# Altium footprint library Клеммники.PcbLib: 37 footprints (part 1 of 3)
Each footprint in its own frame and in the unit in brackets; x right, y up, seen from the top. Pads: shape width x height; smd on the part's side, far side on the other; paste and mask are expansions set on the pad; w line width, h text height; cw(c..) or ccw(c..) is an arc to the next point about the centre after c.
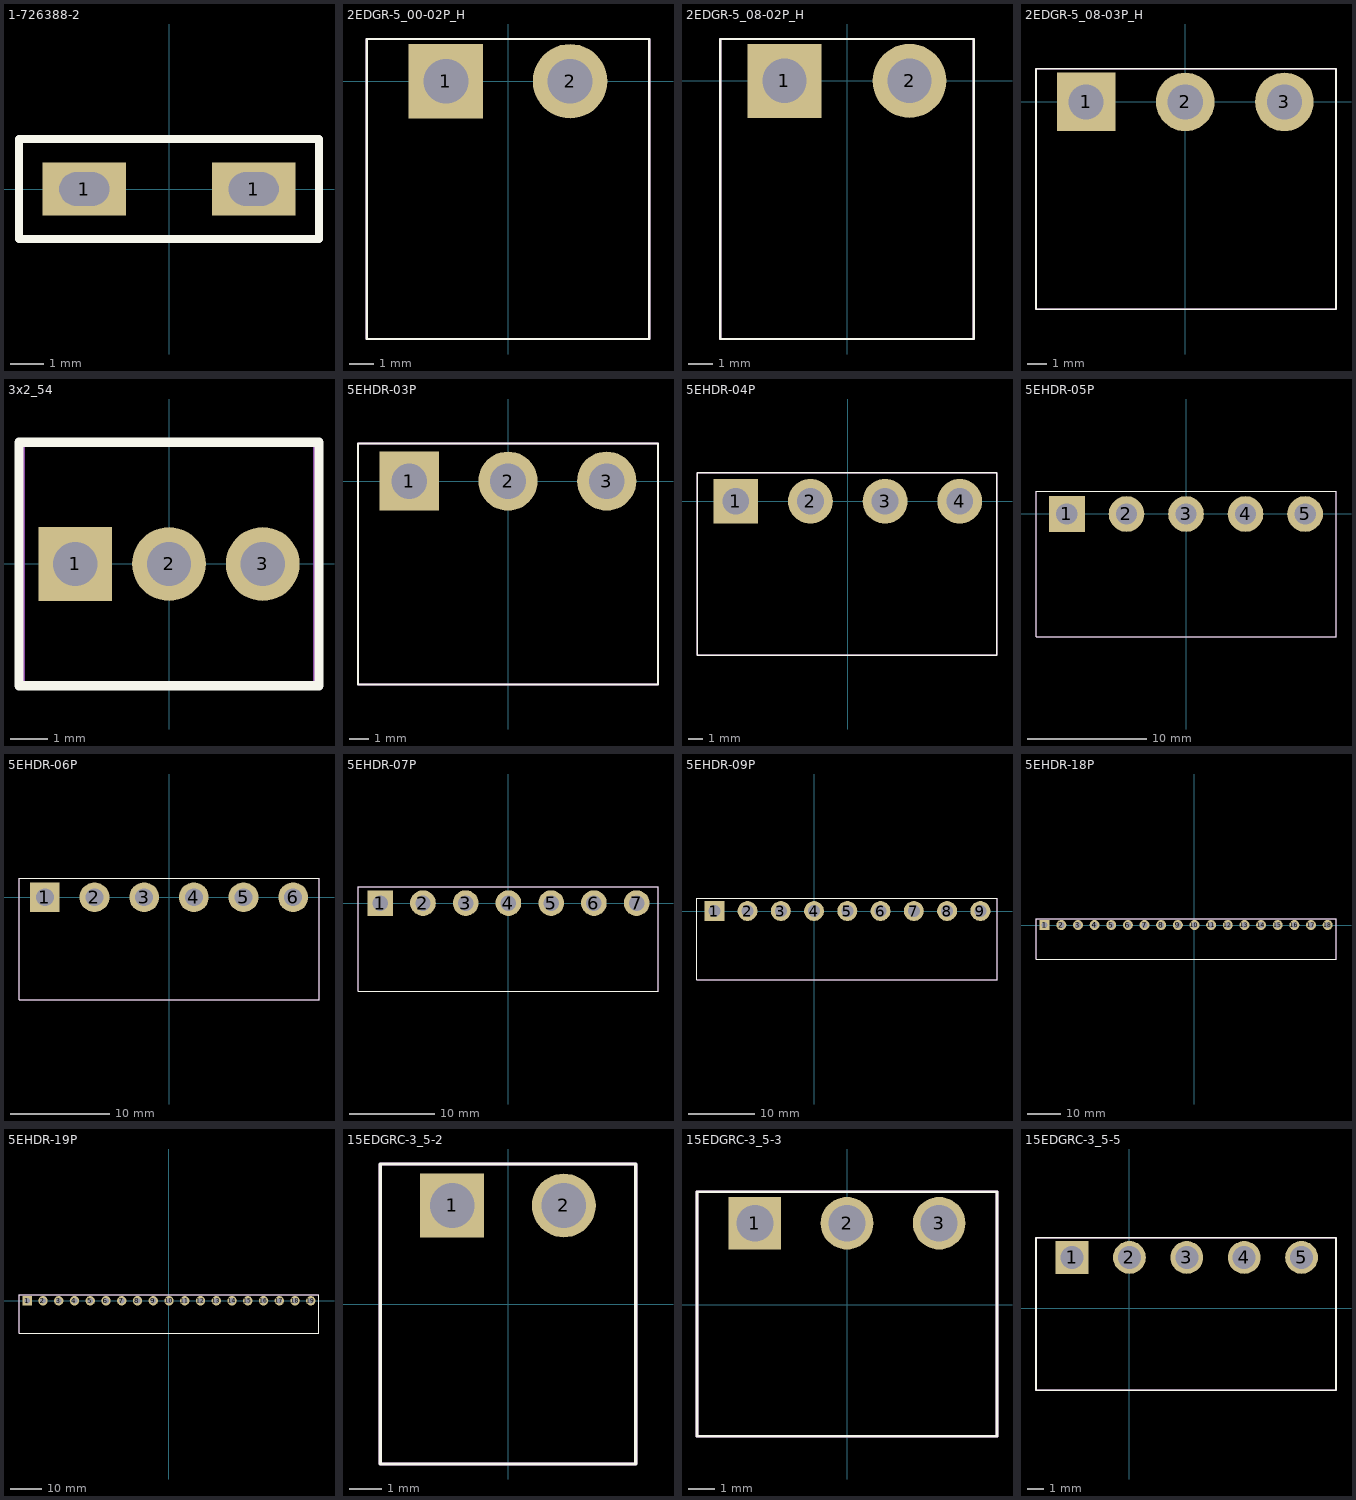
[diagram p0: the footprints below, top view; thin cyan lines are the x and y axes]

## 1-726388-2 [mm]
pads (2):
  rect 2.5x1.6 hole 1 slot 1.5 at 0 deg: 1(-2.54,0) 1(2.54,0)
Top Overlay:
  lines w0.254: -4.5,-1.5 -4.5,1.5 4.5,1.5 4.5,-1.5 -4.5,-1.5
3D body "Вилка-клемма 1-726388-2.stp": height 10, standoff -4, extent -3.165,-0.375 3.215,0.425

## 2EDGR-5_00-02P_H [mm]
pads (2):
  rect 3x3 hole 1.8: 1(-2.5,0)
  round 3 hole 1.8: 2(2.5,0)
Top Overlay:
  lines w0.1: -5.69,-10.389 5.69,-10.389 5.69,1.7 -5.69,1.7 -5.69,-10.389
TopAssy:
  lines w0.1: -5.69,-10.389 -5.69,1.7 5.69,1.7 5.69,-10.389 -5.69,-10.389
  text ".Designator" at -3.9,-5.2 h1.52
3D body "2EDGRC-5_0-02P_H.step": height 8.3, standoff -3.9, extent -5.7,-10.398 5.7,1.702

## 2EDGR-5_08-02P_H [mm]
pads (2):
  rect 3x3 hole 1.8: 1(-2.54,0)
  round 3 hole 1.8: 2(2.54,0)
Top Overlay:
  lines w0.1: -5.156,-10.49 -5.156,1.7 5.156,1.7 5.156,-10.49 -5.156,-10.49
TopAssy:
  lines w0.1: -5.156,-10.49 5.156,-10.49 5.156,1.7 -5.156,1.7 -5.156,-10.49
  text ".Designator" at -3.9,-5.2 h1.52
3D body "2EDGR-5_08-02P_H.step": height 8.3, standoff -3.9, extent -5.08,-10.5 5.08,1.6

## 2EDGR-5_08-03P_H [mm]
pads (3):
  rect 3x3 hole 1.8: 1(-5.08,0)
  round 3 hole 1.8: 2(0,0) 3(5.08,0)
Top Overlay:
  lines w0.1: -7.645,-10.617 7.722,-10.617 7.722,1.7 -7.645,1.7 -7.645,-10.617
TopAssy:
  lines w0.1: -7.645,-10.617 -7.645,1.7 7.722,1.7 7.722,-10.617 -7.645,-10.617
  text ".Designator" at -3.9,-5.2 h1.52
3D body "2EDGR-5_08-03P_H.step": height 8.3, standoff -3.9, extent -7.569,-10.525 7.671,1.575

## 3x2_54 [mm]
pads (3):
  rect 2x2 hole 1.2: 1(-2.54,0)
  round 2 hole 1.2: 2(0,0) 3(2.54,0)
Top Overlay:
  lines w0.254: -4.064,-3.302 4.064,-3.302 4.064,3.3 -4.064,3.3 -4.064,-3.302
TopAssy:
  lines w0.2: -4,-3.3 4,-3.3 4,3.3 -4,3.3 -4,-3.3
  text ".Designator" at -3.6,-2 h1.52
3D body "Клеммник3х2_54.stp": height 10, standoff -3.4, extent -4.04,-3.25 4.04,3.25

## 5EHDR-03P [mm]
pads (3):
  rect 3x3 hole 1.8: 1(-5,0)
  round 3 hole 1.8: 2(0,0) 3(5,0)
Top Overlay:
  lines w0.1: -7.6,-10.3 -7.6,1.9 7.6,1.9 7.6,-10.3 -7.6,-10.3
TopAssy:
  lines w0.1: -7.6,-10.3 7.6,-10.3 7.6,1.9 -7.6,1.9 -7.6,-10.3
  text ".Designator" at 1.7,-3 h1.52
3D body "5EHDR-03P.stp": height 8.47, standoff -4, extent -7.5,-10.2 7.5,1.8

## 5EHDR-04P [mm]
pads (4):
  rect 3x3 hole 1.8: 1(-7.5,0)
  round 3 hole 1.8: 2(-2.5,0) 3(2.5,0) 4(7.5,0)
Top Overlay:
  lines w0.1: -10.1,-10.3 10,-10.3 10,1.9 -10.1,1.9 -10.1,-10.3
TopAssy:
  lines w0.1: -10.1,-10.3 -10.1,1.9 10,1.9 10,-10.3 -10.1,-10.3
  text ".Designator" at 4.2,-3 h1.52

## 5EHDR-05P [mm]
pads (5):
  rect 3x3 hole 1.8: 1(-10,0)
  round 3 hole 1.8: 2(-5,0) 3(0,0) 4(5,0) 5(10,0)
Top Overlay:
  lines w0.1: -12.6,-10.3 -12.6,1.9 12.6,1.9 12.6,-10.3 -12.6,-10.3
TopAssy:
  lines w0.1: -12.6,-10.3 12.6,-10.3 12.6,1.9 -12.6,1.9 -12.6,-10.3
  text ".Designator" at 1.7,-3 h1.52
3D body "5EHDR-05P.stp": height 8.47, standoff -4, extent -12.5,-10.2 12.5,1.8

## 5EHDR-06P [mm]
pads (6):
  rect 3x3 hole 1.8: 1(-12.5,0)
  round 3 hole 1.8: 2(-7.5,0) 3(-2.5,0) 4(2.5,0) 5(7.5,0) 6(12.5,0)
Top Overlay:
  lines w0.1: -15.1,-10.3 15.1,-10.3 15.1,1.9 -15.1,1.9 -15.1,-10.3
TopAssy:
  lines w0.1: -15.1,-10.3 -15.1,1.9 15.1,1.9 15.1,-10.3 -15.1,-10.3
  text ".Designator" at -0.8,-3 h1.52
3D body "5EHDR-06P.stp": height 8.47, standoff -4, extent -15,-10.2 15,1.8

## 5EHDR-07P [mm]
pads (7):
  rect 3x3 hole 1.8: 1(-15,0)
  round 3 hole 1.8: 2(-10,0) 3(-5,0) 4(0,0) 5(5,0) 6(10,0) 7(15,0)
Top Overlay:
  lines w0.1: -17.6,-10.3 -17.6,1.9 17.5,1.9 17.5,-10.3 -17.6,-10.3
TopAssy:
  lines w0.1: -17.6,-10.3 17.5,-10.3 17.5,1.9 -17.6,1.9 -17.6,-10.3
  text ".Designator" at -3.3,-3 h1.52
3D body "5EHDR-06P.stp": height 8.47, standoff -4, extent -17.5,-10.2 12.5,1.8
3D body "5EHDR_1P.step": height 8.47, standoff -4, extent 12.5,-10.2 17.5,1.8

## 5EHDR-09P [mm]
pads (9):
  rect 3x3 hole 1.8: 1(-15,0)
  round 3 hole 1.8: 2(-10,0) 3(-5,0) 4(0,0) 5(5,0) 6(10,0) 7(15,0) 8(20,0) 9(25,0)
Top Overlay:
  lines w0.1: -17.6,-10.3 27.5,-10.3 27.5,1.9 -17.6,1.9 -17.6,-10.3
TopAssy:
  lines w0.1: -17.6,-10.3 -17.6,1.9 27.5,1.9 27.5,-10.3 -17.6,-10.3
  text ".Designator" at -3.3,-3 h1.52
3D body "5EHDR_1P.step": height 8.47, standoff -4, extent 12.5,-10.2 17.5,1.8
3D body "5EHDR-06P.stp": height 8.47, standoff -4, extent -17.5,-10.2 12.5,1.8
3D body "5EHDR_1P.step": height 8.47, standoff -4, extent 17.5,-10.2 22.5,1.8
3D body "5EHDR_1P.step": height 8.47, standoff -4, extent 22.5,-10.2 27.5,1.8

## 5EHDR-18P [mm]
pads (18):
  rect 3x3 hole 1.8: 1(-45,0)
  round 3 hole 1.8: 2(-40,0) 3(-35,0) 4(-30,0) 5(-25,0) 6(-20,0) 7(-15,0) 8(-10,0) 9(-5,0) 10(0,0) 11(5,0) 12(10,0) 13(15,0) 14(20,0) 15(25,0) 16(30,0) 17(35,0) 18(40,0)
Top Overlay:
  lines w0.1: -47.6,-10.3 42.5,-10.3 42.5,1.9 -47.6,1.9 -47.6,-10.3
TopAssy:
  lines w0.1: -47.6,-10.3 -47.6,1.9 42.5,1.9 42.5,-10.3 -47.6,-10.3
  text ".Designator" at -2.7,-4.4 h1.52
3D body "5EHDR-06P.stp": height 8.47, standoff -4, extent -47.5,-10.2 -17.5,1.8
3D body "5EHDR-06P.stp": height 8.47, standoff -4, extent -17.5,-10.2 12.5,1.8
3D body "5EHDR-06P.stp": height 8.47, standoff -4, extent 12.5,-10.2 42.5,1.8

## 5EHDR-19P [mm]
pads (19):
  rect 3x3 hole 1.8: 1(-45,0)
  round 3 hole 1.8: 2(-40,0) 3(-35,0) 4(-30,0) 5(-25,0) 6(-20,0) 7(-15,0) 8(-10,0) 9(-5,0) 10(0,0) 11(5,0) 12(10,0) 13(15,0) 14(20,0) 15(25,0) 16(30,0) 17(35,0) 18(40,0) 19(45,0)
Top Overlay:
  lines w0.1: -47.6,-10.3 -47.6,1.9 47.6,1.9 47.6,-10.3 -47.6,-10.3
TopAssy:
  lines w0.1: -47.6,-10.3 47.6,-10.3 47.6,1.9 -47.6,1.9 -47.6,-10.3
  text ".Designator" at -2.7,-4.4 h1.52
3D body "5EHDR_1P.step": height 8.47, standoff -4, extent 42.5,-10.2 47.5,1.8
3D body "5EHDR-06P.stp": height 8.47, standoff -4, extent 12.5,-10.2 42.5,1.8
3D body "5EHDR-06P.stp": height 8.47, standoff -4, extent -17.5,-10.2 12.5,1.8
3D body "5EHDR-06P.stp": height 8.47, standoff -4, extent -47.5,-10.2 -17.5,1.8

## 15EDGRC-3_5-2 [mm]
pads (2):
  rect 2x2 hole 1.4: 1(-1.75,3.1)
  round 2 hole 1.4: 2(1.75,3.1)
Top Overlay:
  lines w0.1: -4,-5 -4,4.4 4,4.4 4,-5 -4,-5
TopAssy:
  lines w0.1: -4,-5 4,-5 4,4.4 -4,4.4 -4,-5
  text ".Designator" at -3.3,-0.4 h1.52
3D body "15EDGRC-3_5-2.step": height 7.2, standoff -3.4, extent -3.9,-4.9 3.9,4.3

## 15EDGRC-3_5-3 [mm]
pads (3):
  rect 2x2 hole 1.4: 1(-3.5,3.1)
  round 2 hole 1.4: 2(0,3.1) 3(3.5,3.1)
Top Overlay:
  lines w0.1: -5.7,-5 5.7,-5 5.7,4.3 -5.7,4.3 -5.7,-5
TopAssy:
  lines w0.1: -5.7,-5 -5.7,4.3 5.7,4.3 5.7,-5 -5.7,-5
  text ".Designator" at -3.3,-0.4 h1.52
3D body "15EDGRC-3_5-03P.STEP": height 7.2, standoff -3.4, extent -5.625,-5 5.625,4.2

## 15EDGRC-3_5-5 [mm]
pads (5):
  rect 2x2 hole 1.4: 1(-3.5,3.1)
  round 2 hole 1.4: 2(0,3.1) 3(3.5,3.1) 4(7,3.1) 5(10.5,3.1)
Top Overlay:
  lines w0.1: -5.7,-5 12.6,-5 12.6,4.3 -5.7,4.3 -5.7,-5
TopAssy:
  lines w0.1: -5.7,-5 -5.7,4.3 12.6,4.3 12.6,-5 -5.7,-5
  text ".Designator" at -3.3,-0.4 h1.52
3D body "15EDGRC-3_5-03P.STEP": height 7.2, standoff -3.4, extent -5.625,-5 5.625,4.2
3D body "15EDGRC-3_5-2.step": height 7.2, standoff -3.4, extent 4.8,-5 12.6,4.2